# Altium schematic symbol library SCH - MCU - NUVOTON - NUVOTON M2353SIAAE.SchLib: 1 symbol
Pins are listed as number, name and electrical type; pins without a type are passive.

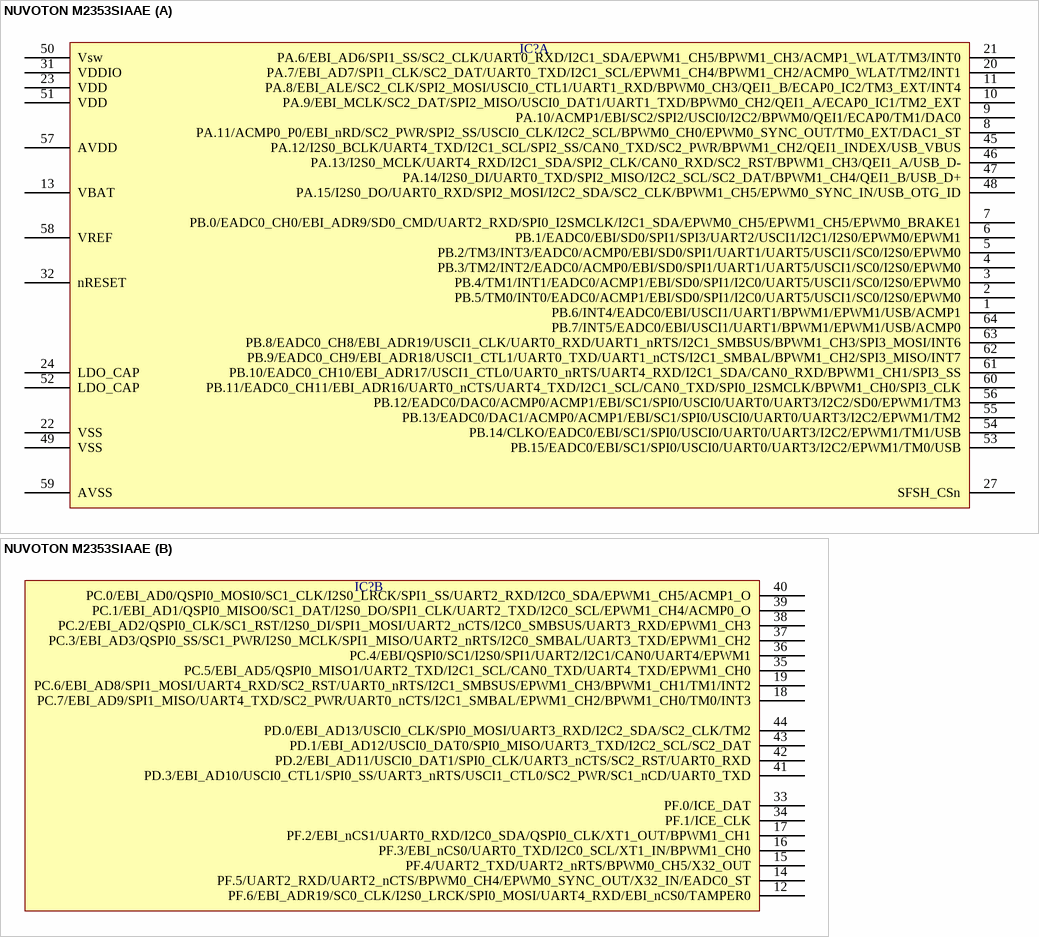
[diagram p0: symbol NUVOTON M2353SIAAE]

## NUVOTON M2353SIAAE
designator IC?  (value not drawn)
part A pins: 1 PB.6/INT4/EADC0/EBI/USCI1/UART1/BPWM1/EPWM1/USB/ACMP1, 2 PB.5/TM0/INT0/EADC0/ACMP1/EBI/SD0/SPI1/I2C0/UART5/USCI1/SC0/I2S0/EPWM0, 3 PB.4/TM1/INT1/EADC0/ACMP1/EBI/SD0/SPI1/I2C0/UART5/USCI1/SC0/I2S0/EPWM0, 4 PB.3/TM2/INT2/EADC0/ACMP0/EBI/SD0/SPI1/UART1/UART5/USCI1/SC0/I2S0/EPWM0, 5 PB.2/TM3/INT3/EADC0/ACMP0/EBI/SD0/SPI1/UART1/UART5/USCI1/SC0/I2S0/EPWM0, 6 PB.1/EADC0/EBI/SD0/SPI1/SPI3/UART2/USCI1/I2C1/I2S0/EPWM0/EPWM1, 7 PB.0/EADC0_CH0/EBI_ADR9/SD0_CMD/UART2_RXD/SPI0_I2SMCLK/I2C1_SDA/EPWM0_CH5/EPWM1_CH5/EPWM0_BRAKE1, 8 PA.11/ACMP0_P0/EBI_nRD/SC2_PWR/SPI2_SS/USCI0_CLK/I2C2_SCL/BPWM0_CH0/EPWM0_SYNC_OUT/TM0_EXT/DAC1_ST, 9 PA.10/ACMP1/EBI/SC2/SPI2/USCI0/I2C2/BPWM0/QEI1/ECAP0/TM1/DAC0, 10 PA.9/EBI_MCLK/SC2_DAT/SPI2_MISO/USCI0_DAT1/UART1_TXD/BPWM0_CH2/QEI1_A/ECAP0_IC1/TM2_EXT, 11 PA.8/EBI_ALE/SC2_CLK/SPI2_MOSI/USCI0_CTL1/UART1_RXD/BPWM0_CH3/QEI1_B/ECAP0_IC2/TM3_EXT/INT4, 13 VBAT, 20 PA.7/EBI_AD7/SPI1_CLK/SC2_DAT/UART0_TXD/I2C1_SCL/EPWM1_CH4/BPWM1_CH2/ACMP0_WLAT/TM2/INT1, 21 PA.6/EBI_AD6/SPI1_SS/SC2_CLK/UART0_RXD/I2C1_SDA/EPWM1_CH5/BPWM1_CH3/ACMP1_WLAT/TM3/INT0, 22 VSS, 23 VDD, 24 LDO_CAP, 27 SFSH_CSn, 31 VDDIO, 32 nRESET, 45 PA.12/I2S0_BCLK/UART4_TXD/I2C1_SCL/SPI2_SS/CAN0_TXD/SC2_PWR/BPWM1_CH2/QEI1_INDEX/USB_VBUS, 46 PA.13/I2S0_MCLK/UART4_RXD/I2C1_SDA/SPI2_CLK/CAN0_RXD/SC2_RST/BPWM1_CH3/QEI1_A/USB_D-, 47 PA.14/I2S0_DI/UART0_TXD/SPI2_MISO/I2C2_SCL/SC2_DAT/BPWM1_CH4/QEI1_B/USB_D+, 48 PA.15/I2S0_DO/UART0_RXD/SPI2_MOSI/I2C2_SDA/SC2_CLK/BPWM1_CH5/EPWM0_SYNC_IN/USB_OTG_ID, 49 VSS, 50 Vsw, 51 VDD, 52 LDO_CAP, 53 PB.15/EADC0/EBI/SC1/SPI0/USCI0/UART0/UART3/I2C2/EPWM1/TM0/USB, 54 PB.14/CLKO/EADC0/EBI/SC1/SPI0/USCI0/UART0/UART3/I2C2/EPWM1/TM1/USB, 55 PB.13/EADC0/DAC1/ACMP0/ACMP1/EBI/SC1/SPI0/USCI0/UART0/UART3/I2C2/EPWM1/TM2, 56 PB.12/EADC0/DAC0/ACMP0/ACMP1/EBI/SC1/SPI0/USCI0/UART0/UART3/I2C2/SD0/EPWM1/TM3, 57 AVDD, 58 VREF, 59 AVSS, 60 PB.11/EADC0_CH11/EBI_ADR16/UART0_nCTS/UART4_TXD/I2C1_SCL/CAN0_TXD/SPI0_I2SMCLK/BPWM1_CH0/SPI3_CLK, 61 PB.10/EADC0_CH10/EBI_ADR17/USCI1_CTL0/UART0_nRTS/UART4_RXD/I2C1_SDA/CAN0_RXD/BPWM1_CH1/SPI3_SS, 62 PB.9/EADC0_CH9/EBI_ADR18/USCI1_CTL1/UART0_TXD/UART1_nCTS/I2C1_SMBAL/BPWM1_CH2/SPI3_MISO/INT7, 63 PB.8/EADC0_CH8/EBI_ADR19/USCI1_CLK/UART0_RXD/UART1_nRTS/I2C1_SMBSUS/BPWM1_CH3/SPI3_MOSI/INT6, 64 PB.7/INT5/EADC0/EBI/USCI1/UART1/BPWM1/EPWM1/USB/ACMP0
part B pins: 12 PF.6/EBI_ADR19/SC0_CLK/I2S0_LRCK/SPI0_MOSI/UART4_RXD/EBI_nCS0/TAMPER0, 14 PF.5/UART2_RXD/UART2_nCTS/BPWM0_CH4/EPWM0_SYNC_OUT/X32_IN/EADC0_ST, 15 PF.4/UART2_TXD/UART2_nRTS/BPWM0_CH5/X32_OUT, 16 PF.3/EBI_nCS0/UART0_TXD/I2C0_SCL/XT1_IN/BPWM1_CH0, 17 PF.2/EBI_nCS1/UART0_RXD/I2C0_SDA/QSPI0_CLK/XT1_OUT/BPWM1_CH1, 18 PC.7/EBI_AD9/SPI1_MISO/UART4_TXD/SC2_PWR/UART0_nCTS/I2C1_SMBAL/EPWM1_CH2/BPWM1_CH0/TM0/INT3, 19 PC.6/EBI_AD8/SPI1_MOSI/UART4_RXD/SC2_RST/UART0_nRTS/I2C1_SMBSUS/EPWM1_CH3/BPWM1_CH1/TM1/INT2, 33 PF.0/ICE_DAT, 34 PF.1/ICE_CLK, 35 PC.5/EBI_AD5/QSPI0_MISO1/UART2_TXD/I2C1_SCL/CAN0_TXD/UART4_TXD/EPWM1_CH0, 36 PC.4/EBI/QSPI0/SC1/I2S0/SPI1/UART2/I2C1/CAN0/UART4/EPWM1, 37 PC.3/EBI_AD3/QSPI0_SS/SC1_PWR/I2S0_MCLK/SPI1_MISO/UART2_nRTS/I2C0_SMBAL/UART3_TXD/EPWM1_CH2, 38 PC.2/EBI_AD2/QSPI0_CLK/SC1_RST/I2S0_DI/SPI1_MOSI/UART2_nCTS/I2C0_SMBSUS/UART3_RXD/EPWM1_CH3, 39 PC.1/EBI_AD1/QSPI0_MISO0/SC1_DAT/I2S0_DO/SPI1_CLK/UART2_TXD/I2C0_SCL/EPWM1_CH4/ACMP0_O, 40 PC.0/EBI_AD0/QSPI0_MOSI0/SC1_CLK/I2S0_LRCK/SPI1_SS/UART2_RXD/I2C0_SDA/EPWM1_CH5/ACMP1_O, 41 PD.3/EBI_AD10/USCI0_CTL1/SPI0_SS/UART3_nRTS/USCI1_CTL0/SC2_PWR/SC1_nCD/UART0_TXD, 42 PD.2/EBI_AD11/USCI0_DAT1/SPI0_CLK/UART3_nCTS/SC2_RST/UART0_RXD, 43 PD.1/EBI_AD12/USCI0_DAT0/SPI0_MISO/UART3_TXD/I2C2_SCL/SC2_DAT, 44 PD.0/EBI_AD13/USCI0_CLK/SPI0_MOSI/UART3_RXD/I2C2_SDA/SC2_CLK/TM2